# EAGLE library part DSUB-9-MALE (library mbed-connectors)
DSUB Connector male 9-pol
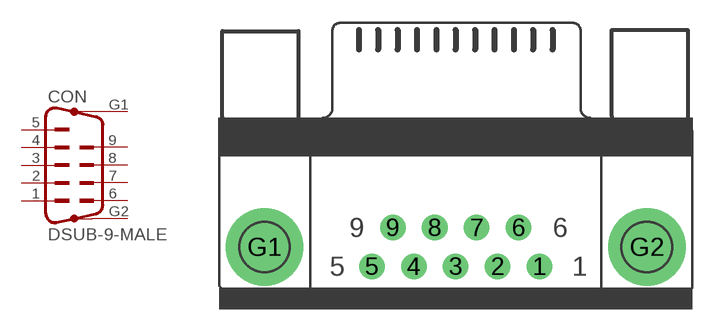
[diagram p4: symbol with the pads of DSUB-9-MALE; footprint DSUB-9-MALE]

Designator prefix CON

## DSUB-9-MALE  [DSUB-9-MALE]
1  5  pas
2  4  pas
3  3  pas
4  2  pas
5  1  pas
6  9  pas
7  8  pas
8  7  pas
9  6  pas
G1  G1  pas
G2  G2  pas

## Footprint DSUB-9-MALE (pad centres in mm)
DSUB Connector male 9-pol
drill 1.016 pad 1.676: 1 5.486,-1.524; 2 2.743,-1.524; 3 0,-1.524; 4 -2.743,-1.524; 5 -5.486,-1.524; 6 4.115,1.016; 7 1.372,1.016; 8 -1.372,1.016; 9 -4.115,1.016
drill 3.302 pad 5.08: G1 -12.522,-0.254; G2 12.522,-0.254